# Altium schematic symbol library MOD-TM1637.SchLib: 1 symbol
Pins are listed as number, name and electrical type; pins without a type are passive.

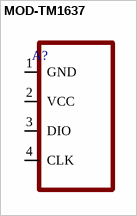
[diagram p0: symbol MOD-TM1637]

## MOD-TM1637
designator A?
pins: 1 GND, 2 VCC, 3 DIO, 4 CLK